# EAGLE library part TEENSY_3.5/3.6 (library Teensy356)
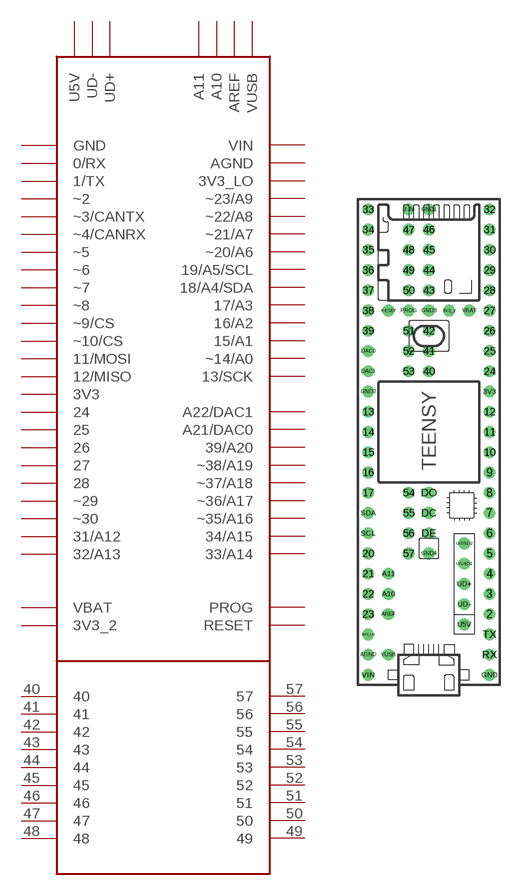
[diagram p0: symbol with the pads of TEENSY_3.5/3.6; footprint TEENSY_3.5/3.6]

Designator prefix -

## TEENSY_3.5/3.6  [TEENSY_3.5/3.6]
2  ~2
3  ~3/CANTX
3V3  3V3
3V3_2  3V3_2
3V3_LO  3V3_LO
4  ~4/CANRX
5  ~5
6  ~6
7  ~7
8  ~8
9  ~9/CS
10  ~10/CS
11  11/MOSI
12  12/MISO
13  13/SCK
14  ~14/A0
15  15/A1
16  16/A2
17  17/A3
20  ~20/A6
21  ~21/A7
22  ~22/A8
23  ~23/A9
24  24
25  25
26  26
27  27
28  28
29  ~29
30  ~30
31  31/A12
32  32/A13
33  33/A14
34  34/A15
35  ~35/A16
36  ~36/A17
37  ~37/A18
38  ~38/A19
39  39/A20
40  40
41  41
42  42
43  43
44  44
45  45
46  46
47  47
48  48
49  49
50  50
51  51
52  52
53  53
54  54
55  55
56  56
57  57
A10  A10
A11  A11
AGND  AGND
AREF  AREF
DAC0  A21/DAC0
DAC1  A22/DAC1
GND  GND
GND2  GND
GND3  GND
PROG  PROG
RESET  RESET
RX  0/RX
SCL  19/A5/SCL
SDA  18/A4/SDA
TX  1/TX
U5V  U5V
UD+  UD+
UD-  UD-
UGND1  GND
UGND2  GND
VBAT  VBAT
VIN  VIN
VUSB  VUSB

## Footprint TEENSY_3.5/3.6 (pad centres in mm)
drill 0.965: 2 10.16,-22.86; 3 10.16,-20.32; 3.3V 0,27.94; 3V3 10.16,5.08; 3V3_2 5.08,15.24; 3V3_LO -5.08,-25.4; 4 10.16,-17.78; 5 10.16,-15.24; 6 10.16,-12.7; 7 10.16,-10.16; 8 10.16,-7.62; 9 10.16,-5.08; 10 10.16,-2.54; 11 10.16,0; 12 10.16,2.54; 13 -5.08,2.54; 14 -5.08,0; 15 -5.08,-2.54; 16 -5.08,-5.08; 17 -5.08,-7.62; 20 -5.08,-15.24; 21 -5.08,-17.78; 22 -5.08,-20.32; 23 -5.08,-22.86; 24 10.16,7.62; 25 10.16,10.16; 26 10.16,12.7; 27 10.16,15.24; 28 10.16,17.78; 29 10.16,20.32; 30 10.16,22.86; 31 10.16,25.4; 32 10.16,27.94; 33 -5.08,27.94; 34 -5.08,25.4; 35 -5.08,22.86; 36 -5.08,20.32; 37 -5.08,17.78; 38 -5.08,15.24; 39 -5.08,12.7; 40 2.54,7.62; 41 2.54,10.16; 42 2.54,12.7; 43 2.54,17.78; 44 2.54,20.32; 45 2.54,22.86; 46 2.54,25.4; 47 0,25.4; 48 0,22.86; 49 0,20.32; 50 0,17.78; 51 0,12.7; 52 0,10.16; 53 0,7.62; 54 0,-7.62; 55 0,-10.16; 56 0,-12.7; 57 0,-15.24; A10 -2.54,-20.32; A11 -2.54,-17.78; AGND -5.08,-27.94; AREF -2.54,-22.86; DAC0 -5.08,10.16; DAC1 -5.08,7.62; DC 2.54,-10.16; DE 2.54,-12.7; DO 2.54,-7.62; GND 10.16,-30.48; GND1 2.54,27.94; GND2 -5.08,5.08; GND3 2.54,15.24; GND4 2.54,-15.24; PROG 0,15.24; RESET -2.54,15.24; RX 10.16,-27.94; SCL -5.08,-12.7; SDA -5.08,-10.16; TX 10.16,-25.4; U5V 6.985,-24.13; UD+ 6.985,-19.05; UD- 6.985,-21.59; UGND1 6.985,-16.51; UGND2 6.985,-13.97; VBAT 7.62,15.24; VIN -5.08,-30.48; VUSB -2.54,-27.94